# Altium footprint library ELCAP_HOR_D10_H16_P5_MIR.PcbLib: 1 footprints
Each footprint in its own frame and in the unit in brackets; x right, y up, seen from the top. Pads: shape width x height; smd on the part's side, far side on the other; paste and mask are expansions set on the pad; w line width, h text height; cw(c..) or ccw(c..) is an arc to the next point about the centre after c.
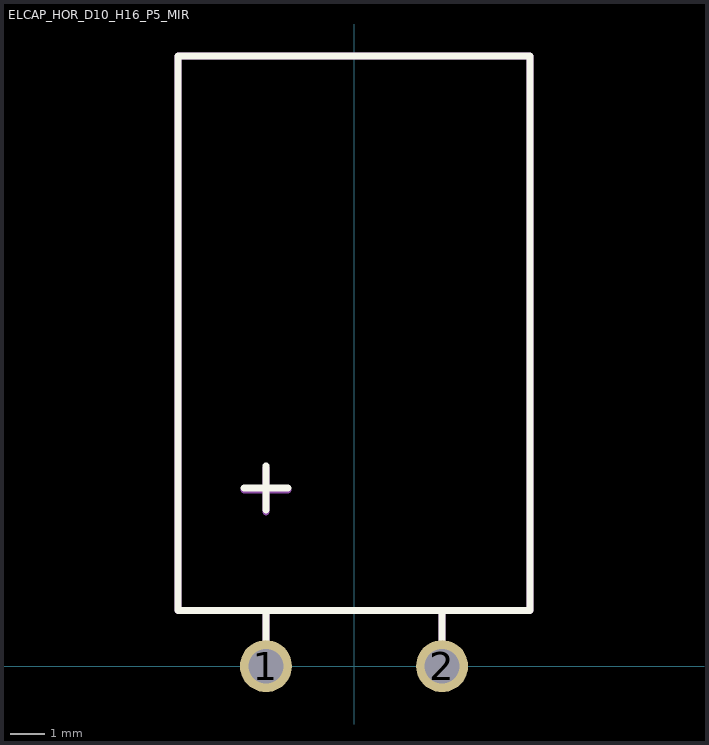
[diagram p0: the footprint, top view; thin cyan lines are the x and y axes]

## ELCAP_HOR_D10_H16_P5_MIR [mm]
pads (2):
  round 1.5 hole 1: 1(-2.54,0) 2(2.54,0)
Top Overlay:
  lines w0.2: -3.175,5.143 -1.905,5.143 ; -2.54,0 -2.54,1.6 ; -2.54,4.508 -2.54,5.779 ; 2.54,-0.127 2.54,1.6 ; -5.08,1.6 -5.08,17.6 5.08,17.6 5.08,1.6 -5.08,1.6
TopAssy:
  lines w0.2: -3.175,5.08 -1.905,5.08 ; -2.54,0 -2.54,1.6 ; -2.54,4.445 -2.54,5.715 ; 2.54,0 2.54,1.6 ; -5.08,1.6 -5.08,17.6 5.08,17.6 5.08,1.6 -5.08,1.6
3D body "SW3dPS-Cap electro 10x16x5.0mm RA.STEP": height 10.13, standoff -3.58, extent -5.025,-0.4 5.025,17.589